# EAGLE library part PCA9670D (library NXP)
Interface - I/O Expanders 8-BIT I2C FM+ QB
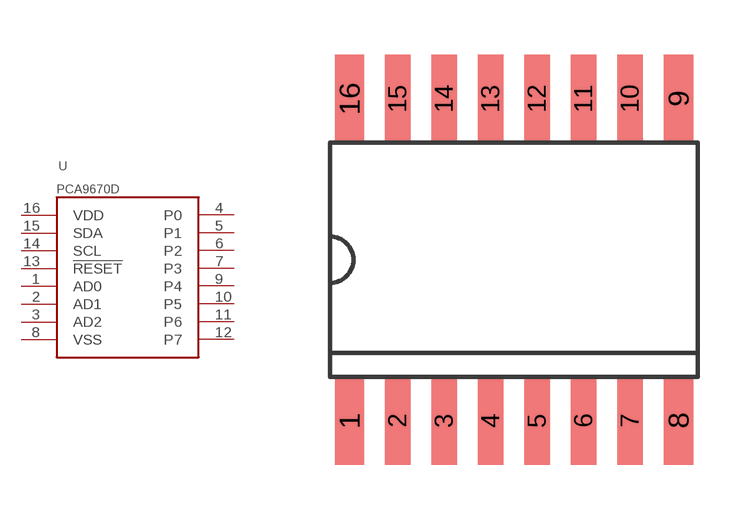
[diagram p1: symbol with the pads of SOT162-1; footprint SOT162-1]

Designator prefix U

## PCA9670D  [SOT162-1]
1  AD0
2  AD1
3  AD2
4  P0
5  P1
6  P2
7  P3
8  VSS
9  P4
10  P5
11  P6
12  P7
13  !RESET
14  SCL
15  SDA
16  VDD

## Footprint SOT162-1 (pad centres in mm)
smd 0.8 x 2.4: 1 -4.495,-4.4; 8 4.495,-4.4; 9 4.495,4.4; 16 -4.495,4.4
smd 0.7 x 2.4: 2 -3.175,-4.4; 3 -1.905,-4.4; 4 -0.635,-4.4; 5 0.635,-4.4; 6 1.905,-4.4; 7 3.175,-4.4; 10 3.175,4.4; 11 1.905,4.4; 12 0.635,4.4; 13 -0.635,4.4; 14 -1.905,4.4; 15 -3.175,4.4